# Altium schematic symbol library CDPcomponents.SchLib: 2 symbols
Pins are listed as number, name and electrical type; pins without a type are passive.

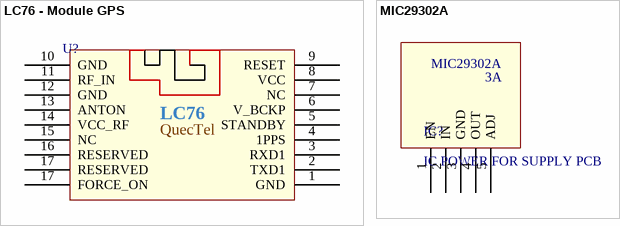
[diagram p0: symbols LC76 - Module GPS to MIC29302A]

## LC76 - Module GPS
designator U?, comment LC76 - Module GPS*  (value not drawn)
footprint LC76 - Module GPS (LC760Z00AAMD)
pins: 1 GND, 2 TXD1, 3 RXD1, 4 1PPS, 5 STANDBY, 6 V_BCKP, 7 NC, 8 VCC, 9 RESET, 10 GND, 11 RF_IN, 12 GND, 13 ANTON, 14 VCC_RF, 15 NC, 16 RESERVED, 17 RESERVED, 17 FORCE_ON
text: LC76; QuecTel

## MIC29302A
designator IC?, comment IC POWER FOR SUPPLY PCB
footprint MIC29302
pins: 1 EN, 2 IN, 3 GND, 4 OUT, 5 ADJ
text: 3A